# Altium footprint library 0908-X.PcbLib: 1 footprints
Each footprint in its own frame and in the unit in brackets; x right, y up, seen from the top. Pads: shape width x height; smd on the part's side, far side on the other; paste and mask are expansions set on the pad; w line width, h text height; cw(c..) or ccw(c..) is an arc to the next point about the centre after c.
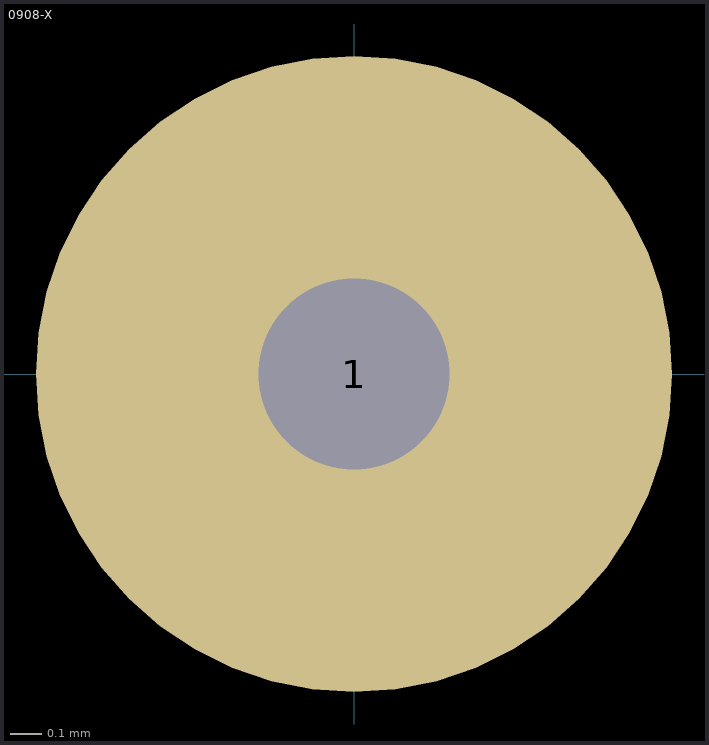
[diagram p0: the footprint, top view; thin cyan lines are the x and y axes]

## 0908-X [mm] "Mill-Max Spring-Loaded Pin"
pads (1):
  round 2 hole 0.6: 1(0,0)
3D body: height 10.95, standoff -1.72, extent -0.914,-0.889 0.914,0.94